# Altium schematic symbol library TPS63060.SchLib: 1 symbol
Pins are listed as number, name and electrical type; pins without a type are passive.

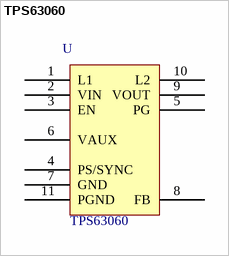
[diagram p0: symbol TPS63060]

## TPS63060
designator U  value TPS63060  (hidden comment: *)
Manufacturer: Texas Instruments; Manufacturer Code: TPS63060DSCR; Unit Price: 3,59 €; Farnell Code: 2082430
footprint SON-10 (Footprint not found)
pins: 1 L1, 2 VIN, 3 EN, 4 PS/SYNC, 5 PG, 6 VAUX, 7 GND, 8 FB, 9 VOUT, 10 L2, 11 PGND